# EAGLE library part BOURNS_FADER (library dpx-Potentiometers)
Bourns 1 Gang Slide Carbon Potentiometer with an 6 mm Dia. Shaft - 10k, +/-20%, 0.2W Power Rating, Linear, Through Hole Source: Datasheet <https://www.bourns.com/docs/Product-Datasheets/PTL.pdf>
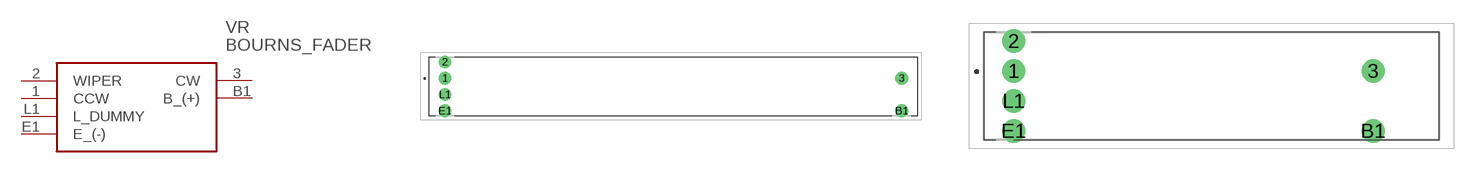
[diagram p1: symbol with the pads of PTL6015G1103B2; footprints PTL6015G1103B2, PTL2010R0103B2]

Designator prefix VR

## BOURNS_FADERPTL60 (DESCRIPTION: Bourns 1 Gang Slide Carbon Potentiometer with an 6 mm Dia. Shaft - 10k, +/-20%, 0.2W Power Rating, Linear, Through Hole; HEIGHT: 22mm; MANUFACTURER_NAME: Bourns; MANUFACTURER_PART_NUMBER: PTL60-15G1-103B2; MOUSER_PART_NUMBER: 652-PTL60-15G1-103B2; MOUSER_PRICE-STOCK: https://www.mouser.co.uk/ProductDetail/Bourns/PTL60-15G1-103B2?qs=XxajcJZMfNxADct0M%2FB1oA%3D%3D)  [PTL6015G1103B2]
1  CCW
2  WIPER
3  CW
B1  B_(+)
E1  E_(-)
L1  L_DUMMY

## BOURNS_FADERPTL20  [PTL2010R0103B2]
Pads as for PTL6015G1103B2

## BOURNS_FADERPTL30  [PTL3010R0103B2]
Pads as for PTL6015G1103B2

## Footprint PTL6015G1103B2 (pad centres in mm)
PTL60-15G1-103B2-5
drill 1.3 pad 1.95: 1 0,0; 2 0,2.5; 3 70,0; B1 70,-5; E1 0,-5; L1 0,-2.5

## Footprint PTL2010R0103B2 (pad centres in mm)
PTL60-15G1-103B2-5
drill 1.3 pad 1.95: 1 0,0; 2 0,2.5; 3 30,0; B1 30,-5; E1 0,-5; L1 0,-2.5

## Footprint PTL3010R0103B2 (pad centres in mm)
PTL60-15G1-103B2-5
drill 1.3 pad 1.95: 1 0,0; 2 0,2.5; 3 40,0; B1 40,-5; E1 0,-5; L1 0,-2.5